# EAGLE library part WIZ820IO (library mcu-accessories)
WIZNET ethernet eval board
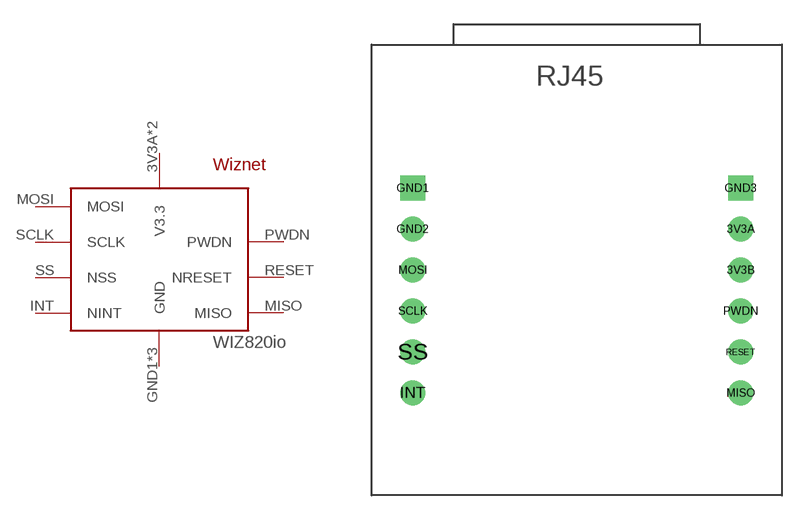
[diagram p6: symbol with the pads of WIZNET; footprint WIZNET]

Designator prefix -

## WIZ820IO  [WIZNET]
3V3A  V3.3
3V3B  V3.3
GND1  GND
GND2  GND
GND3  GND
INT  NINT
MISO  MISO
MOSI  MOSI
PWDN  PWDN
RESET  NRESET
SCLK  SCLK
SS  NSS

## Footprint WIZNET (pad centres in mm)
drill 1.016: 3V3A 10.16,5.08; 3V3B 10.16,2.54; GND2 -10.16,5.08; INT -10.16,-5.08; MISO 10.16,-5.08; MOSI -10.16,2.54; PWDN 10.16,0; RESET 10.16,-2.54; SCLK -10.16,0; SS -10.16,-2.54
drill 1.016 square: GND1 -10.16,7.62; GND3 10.16,7.62